# EAGLE library part CETUS_CONTROLLER (library cetus)
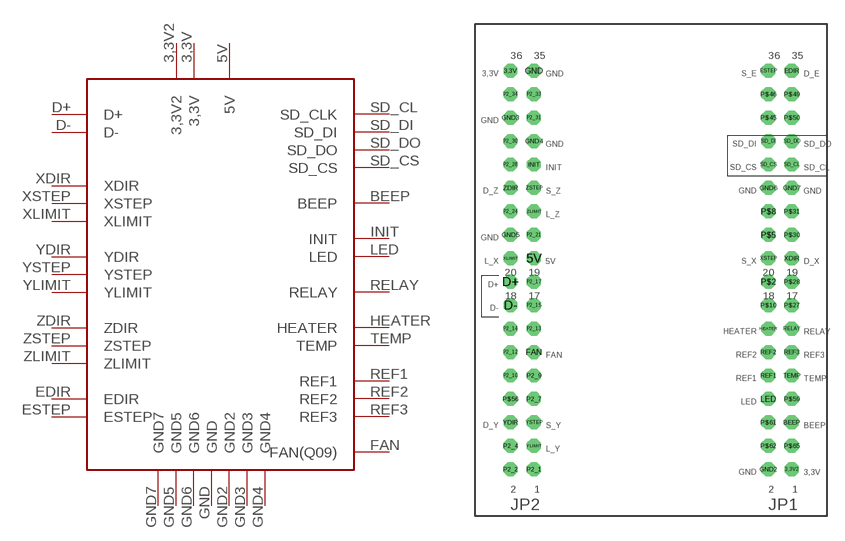
[diagram p0: symbol with the pads of CETUS_CONTROLLER; footprint CETUS_CONTROLLER]

Designator prefix -

## CETUS_CONTROLLER  [CETUS_CONTROLLER]
3,3V  3,3V  sup
3,3V2  3,3V2  sup
5V  5V  sup
BEEP  BEEP
D+  D+
D-  D-
EDIR  EDIR
ESTEP  ESTEP
FAN  FAN(Q09)
GND  GND  sup
GND2  GND2
GND3  GND3
GND4  GND4
GND5  GND5
GND6  GND6
GND7  GND7
HEATER  HEATER
INIT  INIT
LED  LED
REF1  REF1
REF2  REF2
REF3  REF3
RELAY  RELAY
SD_CL  SD_CLK
SD_CS  SD_CS
SD_DI  SD_DI
SD_DO  SD_DO
TEMP  TEMP
XDIR  XDIR
XLIMIT  XLIMIT
XSTEP  XSTEP
YDIR  YDIR
YLIMIT  YLIMIT
YSTEP  YSTEP
ZDIR  ZDIR
ZLIMIT  ZLIMIT
ZSTEP  ZSTEP

## Footprint CETUS_CONTROLLER (pad centres in mm)
drill 1 octagon: 3,3V -15.24,21.59; 3,3V2 15.24,-21.59; 5V -12.7,1.27; BEEP 15.24,-16.51; D+ -15.24,-1.27; D- -15.24,-3.81; EDIR 15.24,21.59; ESTEP 12.7,21.59; FAN -12.7,-8.89; GND -12.7,21.59; GND2 12.7,-21.59; GND3 -15.24,16.51; GND4 -12.7,13.97; GND5 -15.24,3.81; GND6 12.7,8.89; GND7 15.24,8.89; HEATER 12.7,-6.35; INIT -12.7,11.43; LED 12.7,-13.97; P2_1 -12.7,-21.59; P2_2 -15.24,-21.59; P2_4 -15.24,-19.05; P2_7 -12.7,-13.97; P2_9 -12.7,-11.43; P2_10 -15.24,-11.43; P2_12 -15.24,-8.89; P2_13 -12.7,-6.35; P2_14 -15.24,-6.35; P2_15 -12.7,-3.81; P2_17 -12.7,-1.27; P2_21 -12.7,3.81; P2_24 -15.24,6.35; P2_28 -15.24,11.43; P2_30 -15.24,13.97; P2_31 -12.7,16.51; P2_33 -12.7,19.05; P2_34 -15.24,19.05; P$2 12.7,-1.27; P$5 12.7,3.81; P$8 12.7,6.35; P$10 12.7,-3.81; P$27 15.24,-3.81; P$28 15.24,-1.27; P$30 15.24,3.81; P$31 15.24,6.35; P$45 12.7,16.51; P$46 12.7,19.05; P$49 15.24,19.05; P$50 15.24,16.51; P$56 -15.24,-13.97; P$59 15.24,-13.97; P$61 12.7,-16.51; P$62 12.7,-19.05; P$65 15.24,-19.05; REF1 12.7,-11.43; REF2 12.7,-8.89; REF3 15.24,-8.89; RELAY 15.24,-6.35; SD_CL 15.24,11.43; SD_CS 12.7,11.43; SD_DI 12.7,13.97; SD_DO 15.24,13.97; TEMP 15.24,-11.43; XDIR 15.24,1.27; XLIMIT -15.24,1.27; XSTEP 12.7,1.27; YDIR -15.24,-16.51; YLIMIT -12.7,-19.05; YSTEP -12.7,-16.51; ZDIR -15.24,8.89; ZLIMIT -12.7,6.35; ZSTEP -12.7,8.89